# EAGLE library part LT3750 (library kickerchips)
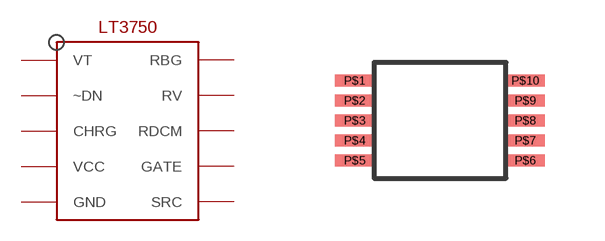
[diagram p2: symbol with the pads of 10-MSOP; footprint 10-MSOP]

Designator prefix -

## LT3750  [10-MSOP]
P$1  VT
P$2  ~DN
P$3  CHRG
P$4  VCC
P$5  GND
P$6  SRC
P$7  GATE
P$8  RDCM
P$9  RV
P$10  RBG

## Footprint 10-MSOP (pad centres in mm)
smd 0.97 x 0.31: P$1 -0.485,-0.155; P$2 -0.485,-0.655; P$3 -0.485,-1.155; P$4 -0.485,-1.655; P$5 -0.485,-2.155; P$6 3.785,-2.155; P$7 3.785,-1.655; P$8 3.785,-1.155; P$9 3.785,-0.655; P$10 3.785,-0.155